# EAGLE library part 691314520121 (library Wurth_Elektronik_Electromechanic_Terminal_Blocks_Connectors_rev15c)
WR-TBL Serie 314 - 5.08mm Close 45° PCB Header with Flanges , 21 pins=>Code : WR-TBL_314_691314520121 <http://katalog.we-online.de/media/images/eican/WR-TBL_314_691314520103_pf2.jpg> Details see: http://katalog.we-online.de/en/em/691_314_520_1xx Created 2014-06-25, Karrer Zheng 2014 (C) Würth Elektronik
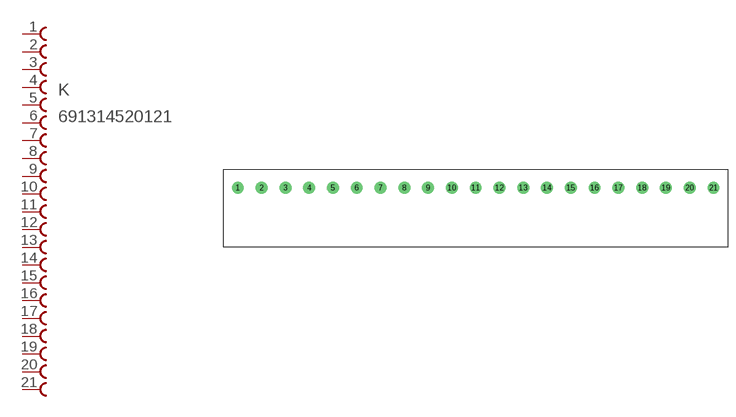
[diagram p167: symbol with the pads of 691314520121; footprint 691314520121]

Designator prefix K

## 691314520121  [691314520121]
1  1  pas
2  2  pas
3  3  pas
4  4  pas
5  5  pas
6  6  pas
7  7  pas
8  8  pas
9  9  pas
10  10  pas
11  11  pas
12  12  pas
13  13  pas
14  14  pas
15  15  pas
16  16  pas
17  17  pas
18  18  pas
19  19  pas
20  20  pas
21  21  pas

## Footprint 691314520121 (pad centres in mm)
WR-TBL Serie 314 - 5.08mm Close 45° PCB Header with Flanges , 21 pins
drill 1.7: 1 -50.8,0; 2 -45.72,0; 3 -40.64,0; 4 -35.56,0; 5 -30.48,0; 6 -25.4,0; 7 -20.32,0; 8 -15.24,0; 9 -10.16,0; 10 -5.08,0; 11 0,0; 12 5.08,0; 13 10.16,0; 14 15.24,0; 15 20.32,0; 16 25.4,0; 17 30.48,0; 18 35.56,0; 19 40.64,0; 20 45.72,0; 21 50.8,0